# EAGLE library part BOARD-AKI-D (library mylib)
Universal Board for Prototyping w/ Dual D-Sub 9Pin
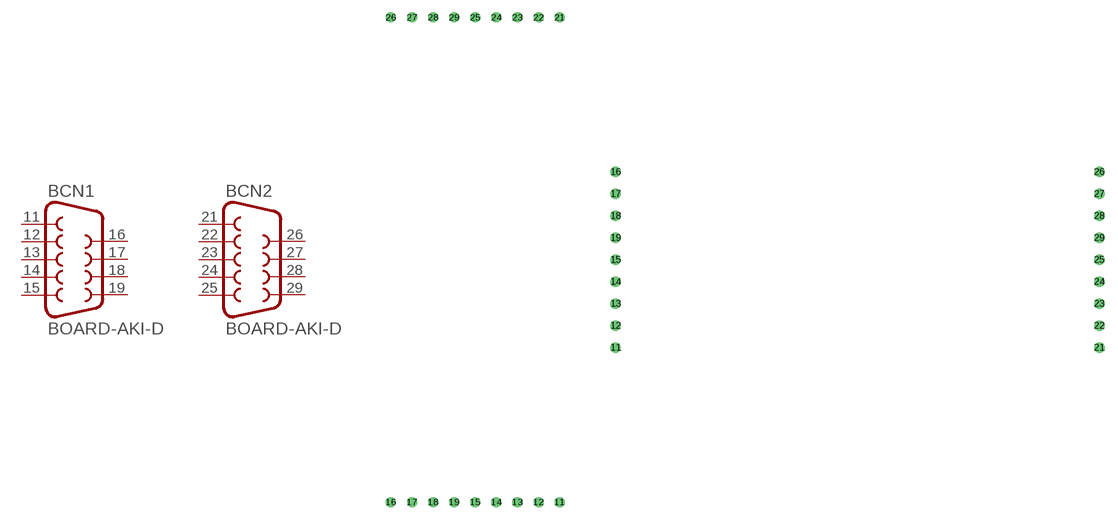
[diagram p50: symbol with the pads of BOARD-AKI-D-L; footprints BOARD-AKI-D-L, BOARD-AKI-D-S]

Designator prefix B; gates CN1=CON-SUBD-9 CN2=CON-SUBD-9

## BOARD-AKI-D-L  [BOARD-AKI-D-L]
11  CN1:1  pas
12  CN1:2  pas
13  CN1:3  pas
14  CN1:4  pas
15  CN1:5  pas
16  CN1:6  pas
17  CN1:7  pas
18  CN1:8  pas
19  CN1:9  pas
21  CN2:1  pas
22  CN2:2  pas
23  CN2:3  pas
24  CN2:4  pas
25  CN2:5  pas
26  CN2:6  pas
27  CN2:7  pas
28  CN2:8  pas
29  CN2:9  pas

## BOARD-AKI-D-S  [BOARD-AKI-D-S]
Pads as for BOARD-AKI-D-L

## Footprint BOARD-AKI-D-L (pad centres in mm)
UNIVERSAL BOARD : AKIZUKI type D LARGE
drill 0.7: 11 59.69,15.24; 12 57.15,15.24; 13 54.61,15.24; 14 52.07,15.24; 15 49.53,15.24; 16 39.37,15.24; 17 41.91,15.24; 18 44.45,15.24; 19 46.99,15.24; 21 59.69,73.66; 22 57.15,73.66; 23 54.61,73.66; 24 52.07,73.66; 25 49.53,73.66; 26 39.37,73.66; 27 41.91,73.66; 28 44.45,73.66; 29 46.99,73.66

## Footprint BOARD-AKI-D-S (pad centres in mm)
UNIVERSAL BOARD : AKIZUKI type D SMALL
drill 0.7: 11 17.78,12.7; 12 17.78,15.24; 13 17.78,17.78; 14 17.78,20.32; 15 17.78,22.86; 16 17.78,33.02; 17 17.78,30.48; 18 17.78,27.94; 19 17.78,25.4; 21 73.66,12.7; 22 73.66,15.24; 23 73.66,17.78; 24 73.66,20.32; 25 73.66,22.86; 26 73.66,33.02; 27 73.66,30.48; 28 73.66,27.94; 29 73.66,25.4